# Altium schematic symbol library LT1991.Schlib: 1 symbol
Pins are listed as number, name and electrical type; pins without a type are passive.

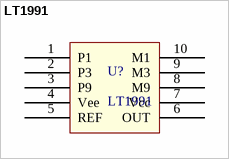
[diagram p0: symbol LT1991]

## LT1991
designator U?
Difference Amplifier
pins: 1 P1, 2 P3, 3 P9, 4 Vee, 5 REF, 6 OUT, 7 Vcc, 8 M9, 9 M3, 10 M1